# Altium schematic symbol library Schlib1.SchLib: 57 symbols (part 1 of 2)
Pins are listed as number, name and electrical type; pins without a type are passive.

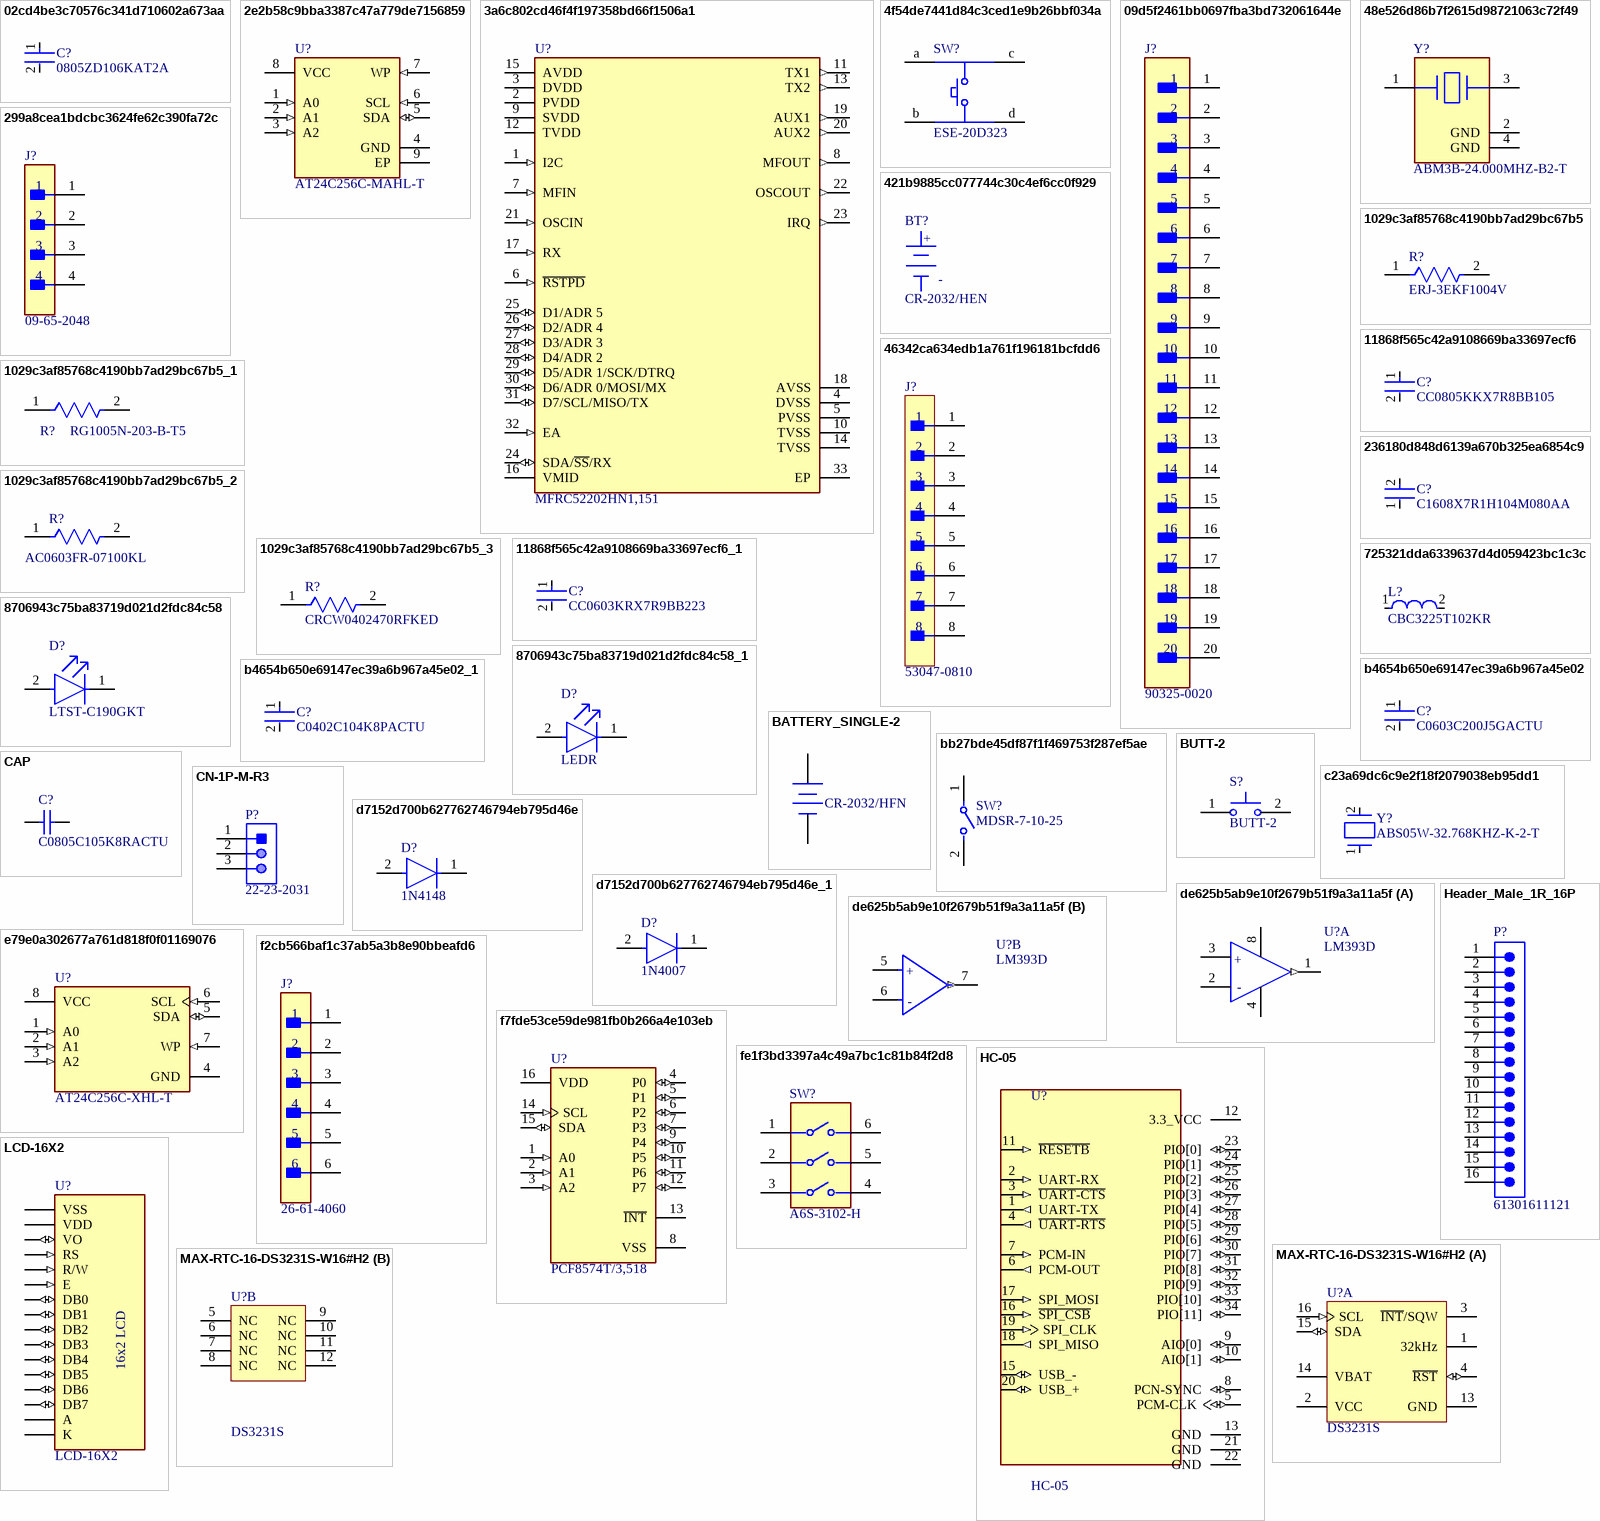
[diagram p0: symbols 02cd4be3c70576c341d710602a673aa to MAX-RTC-16-DS3231S-W16#H2]

## 02cd4be3c70576c341d710602a673aa
designator C?, comment 0805ZD106KAT2A
General Purpose Ceramic Capacitor, 0805, 10uF, 10%, X5R, 15%, 10V; Packaging: Tape and Reel; Mount: Surface Mount; Length: 2.01mm; Series: -; Dielectric Material: Ceramic; Voltage Rating: 10V; Tolerance: 10%; Voltage Rating (DC): 10V; Termination: SMD/SMT; Number of Pins: 2; Thickness: 0.055inch; Min Operating Temperature: -55°C; REACH SVHC: No SVHC; Width: 0.049inch; Case/Package: 0805; Capacitance: 10uF; Depth: 1.25mm; Height: 1.4mm; Voltage: 10V; Package Quantity: 3000; Lead Free: Lead Free; Case Code (Metric): 2012; Construction: Flat; RoHS Compliant: Yes; Case Code (Imperial): 0805; Dielectric: X5R; Max Operating Temperature: 85°C; Radiation Hardening: No
footprint FP-0805-L_2_01_0_2-W_1_25-MFG
footprint FP-0805-L_2_01_0_2-W_1_25-IPC_C
footprint FP-0805-L_2_01_0_2-W_1_25-IPC_A
footprint FP-0805-L_2_01_0_2-W_1_25-IPC_B
pins: 1, 2

## 2e2b58c9bba3387c47a779de7156859
designator U?, comment AT24C256C-MAHL-T
IC EEPROM 256K I2C 1MHZ 8UDFN; Manufacturer: Microchip; Standoff Height: 0mm; Nominal Supply Current: 1-2mA; Frequency: 1000kHz; Memory Size: 256Kbits; Max Supply Voltage: 5.5V; Interface: I2C,2-Wire; Min Supply Voltage: 1.7V; Temperature Range Low: -40°C; Device Class L2: Memory; ComponentLink2Description: Datasheet; Device Class L1: Integrated Circuits (ICs); Temperature Range High: +85°C; Temperature: -40°C to +85°C; Digikey Description: IC EEPROM 256K I2C 1MHZ 8UDFN; RoHS: TRUE; Category: IC; Device Class L3: EEPROM; Height: 0.6mm; Manufacturer Part Number: AT24C256C-MAHL-T; Octopart: https://octopart.com/at24c256c-mahl-t-microchip-77757994; Automotive: No; Mouser Description: EEPROM Serial-2Wire 256K-bit 32K x 8 1.8V/2.5V/3.3V/5V Automotive 8-Pin UDFN EP T/R; ComponentLink2URL: https://ww1.microchip.com/downloads/en/DeviceDoc/AT24C256C-I2C-Compatible-Serial-EEPROM-256-Kbit-20006042A.pdf; Memory Type: EEPROM; Lead Free: Yes; Package: C04-21355-Q4B
footprint FP-C04-21355-Q4B-MFG
footprint FP-C04-21355-Q4B-IPC_C
footprint FP-C04-21355-Q4B-IPC_B
footprint FP-C04-21355-Q4B-IPC_A
pins: 1 A0 (in), 2 A1 (in), 3 A2 (in), 4 GND (power), 5 SDA (io), 6 SCL (in), 7 WP (in), 8 VCC (power), 9 EP (power)

## 3a6c802cd46f4f197358bd66f1506a1
designator U?, comment MFRC52202HN1,151
IC RFID READER 13.56MHZ 32HVQFN; Manufacturer: NXP; Nominal Supply Current: 3-60mA; Interface: I2C,SPI,UART,RS-232; Max Supply Voltage: 3.6V; Max Junction Temp: +100°C; Standoff Height: 0mm; Data Rate: 10Mbits/s; Min Supply Voltage: 1.6V; Max Power Dissipation: 200mW; Digikey Description: IC RFID READER 13.56MHZ 32HVQFN; Manufacturer Part Number: MFRC52202HN1,151; ComponentLink2URL: https://www.nxp.com/docs/en/data-sheet/MFRC522.pdf; Temperature Range High: +100°C; ComponentLink2Description: Datasheet; Category: IC; Device Class L1: Integrated Circuits (ICs); Device Class L3: Transceivers; Max Frequency: 13.56MHz; Automotive: No; Height: 1mm; Ambient Temperature Range High: +85°C; Temperature: to +100°C; Lead Free: Yes; Mouser Description: RFID Transponders CONTACTLESS READER IC; Device Class L2: RF Semiconductors and Devices; Octopart: https://octopart.com/mfrc52202hn1%2C151-nxp+semiconductors-19647932; Footprint Url: https://www.nxp.com/docs/en/package-information/SOT617-1.pdf; RoHS: TRUE; Package: SOT617-1; Ambient Temperature Range Low: -25°C
footprint FP-SOT617-1-MFG
footprint FP-SOT617-1-IPC_C
footprint FP-SOT617-1-IPC_B
footprint FP-SOT617-1-IPC_A
pins: 1 I2C (in), 2 PVDD (power), 3 DVDD (power), 4 DVSS (power), 5 PVSS (power), 6 ~{RSTPD} (in), 7 MFIN (in), 8 MFOUT (out), 9 SVDD (power), 10 TVSS (power), 11 TX1 (out), 12 TVDD (power), 13 TX2 (out), 14 TVSS (power), 15 AVDD (power), 16 VMID (power), 17 RX (in), 18 AVSS (power), 19 AUX1 (out), 20 AUX2 (out), 21 OSCIN (in), 22 OSCOUT (out), 23 IRQ (out), 24 SDA/~{SS}/RX (io), 25 D1/ADR 5 (io), 26 D2/ADR 4 (io), 27 D3/ADR 3 (io), 28 D4/ADR 2 (io), 29 D5/ADR 1/SCK/DTRQ (io), 30 D6/ADR 0/MOSI/MX (io), 31 D7/SCL/MISO/TX (io), 32 EA (in), 33 EP (power)

## 4f54de7441d84c3ced1e9b26bbf034a
designator SW?, comment ESE-20D323
ESE-20D323 Push Switch Momentary SPST, Leaded, 8.9m 14VDC, 2.0N, ST Lead, Bulk; NexarPartId: 40007707; Operating Force: 2N; Current Rating: 100mA; Switch Function: Off-Mom; Number of Positions: 2; Voltage Rating (DC): 14V; Height: 12.8mm; REACH SVHC: No SVHC; Length: 7.9mm; Termination: PC Pin; Mount: Through Hole; Width: 7.8mm; Max Operating Temperature: 80°C; Throw Configuration: SPST; Orientation: Vertical; Contact Current Rating: 100mA; RoHS: Compliant; Radiation Hardening: No; Min Operating Temperature: -30°C; Packaging: Bulk; Lead Free: Lead Free
footprint FP-ESE-20D323-MFG (Push Switch Momentary SPST, Leaded, 8.9m 14VDC, 2.0N, ST Lead, Bulk)
pins: a, b, c, d

## 09d5f2461bb0697fba3bd732061644e
designator J?, comment 90325-0020
90325-0020 Picoflex PF-50 Header, Vertical, Low Profile, with PCB Pegs, 20 Circuits; Manufacturer Lifecycle Status: ACTIVE; NexarPartId: 250569; Voltage Rating (AC): 250V; Number of Circuits: 20; Current Rating: 1.2A; Gender: Male; Pitch: 1.27mm; Glow Wire Compliant: Non-compliant; Contact Resistance: 15mΩ; Wire/Cable Gauge: 26AWG; Width: 24.13mm; Number of Pins: 20; Termination: Through Hole; Material: Polyester; Length: 9.32mm; Housing Material: Polyester; Min Operating Temperature: -40°C; Height: 6.4mm; Voltage Rating: 250V; Contact Material: Brass; REACH SVHC: Unknown; Lead Pitch: 1.27mm; Number of Poles: 20; Schedule B: 8536694040; Mount: Through Hole; Number of Positions: 20; Housing Color: Black; Contact Plating: Tin; Country of Origin: MY; Working Voltage: 250V; Max Current Rating: 1.2A; Lifecycle Status: Production; Lead Free: Lead Free; Number of Rows: 1; Flammability Rating: UL94 V-0; Voltage Rating (DC): 250V; Number of Contacts: 20; RoHS: Compliant; Max Operating Temperature: 105°C; Color: Black; Depth: 5.98mm; Orientation: Vertical
footprint FP-90325-0020-MFG (Picoflex PF-50 Header, Vertical, Low Profile, with PCB Pegs, 20 Circuits)
pins: 1, 2, 3, 4, 5, 6, 7, 8, 9, 10, 11, 12, 13, 14, 15, 16, 17, 18, 19, 20

## 48e526d86b7f2615d98721063c72f49
designator Y?, comment ABM3B-24.000MHZ-B2-T
Crystal 24MHz ±20ppm 18pF SMD-4 5mm x 3.2mm; ESR (Equivalent Series Resistance): 50R; Frequency Stability: 50ppm; Number of Pins: 4; Lead Free: Lead Free; Packaging: Tape and Reel; Tolerance: 20ppm; Series: ABM3B; Height: 0.043inch; Load Capacitance: 18pF; Length: 5mm; Depth: 3.2mm; Mount: Surface Mount; Resistor Type: Ceramic; Case/Package: CSMD; Termination: SMD/SMT; Width: 0.126inch; Frequency: 24MHz; Max Operating Temperature: 70°C; Frequency Tolerance: 20ppm; REACH SVHC: No SVHC; Package Quantity: 1000; Min Operating Temperature: -20°C; Series Resistance: 50R; Operating Frequency: 24 MHz
footprint FP-ABM3B-MFG
pins: 1, 2 GND (power), 3, 4 GND (power)

## 299a8cea1bdcbc3624fe62c390fa72c
designator J?, comment 09-65-2048
CONN HEADER VERT 4POS 3.96MM; Glow Wire Compliant: Non-compliant; Current Rating: 7A; Max Current Rating: 3A; Number of Contacts: 4; Insulation Resistance: 1GR; Voltage Rating (DC): 250V; Contact Resistance: 10mR; Gender: Male; Length: 12.88mm; Packaging: Bulk; Flammability Rating: UL94 V-2; RoHS Compliant: Yes; Housing Material: Nylon; Pitch: 3.96mm; Contact Gender: Male; Orientation: Straight; Housing Color: Natural; Min Operating Temperature: -40°C; Series: 5273; Lead Free: Lead Free; Package Quantity: 6000; Max Voltage Rating (AC): 250V; Radiation Hardening: No; Termination: Through Hole; Depth: 2.29mm; Contact Material: Brass; Number of Positions: 4; Height: 2.03mm; Contact Plating: Tin; Number of Rows: 1; Mount: Through Hole; Voltage Rating: 250V; Max Operating Temperature: 105°C
footprint FP-09-65-2048-MFG
pins: 1, 2, 3, 4

## 421b9885cc077744c30c4ef6cc0f929
designator BT?, comment CR-2032/HEN
CR-2032/HEN Coin Cell Battery CR Coin 225mAH 3V; NexarPartId: 20056885; Chemistry/Technology: Lithium; Outside Diameter: 20mm; RoHS: Non-Compliant; Weight: 2.9g; REACH SVHC: Yes; Diameter: 20mm; Min Operating Temperature: -30°C; Max Operating Temperature: 60°C; Height: 3.2mm
footprint FP-CR-2032-BN-MFG (Coin Cell Battery CR Coin 225mAH 3V)
text: +; -

## 1029c3af85768c4190bb7ad29bc67b5
designator R?, comment ERJ-3EKF1004V
RES SMD 1M OHM 1% 1/10W 0603; Resistance: 1MR; Voltage Rating: 75V; Temperature Coefficient: 100ppm/°C; Power Rating: 100mW; REACH SVHC: No SVHC; Radiation Hardening: No; Features: Automotive AEC-Q200; Case Code (Metric): 1608; Resistance Tolerance: 1%; Case/Package: 0603; Termination: SMD/SMT; Max Operating Temperature: 155°C; Tolerance: 1%; Size Code: 0603; Case Code (Imperial): 0603; Min Operating Temperature: -55°C; Number of Pins: 2; Mount: Surface Mount; Package Quantity: 1; Military Standard: Not; Voltage Rating (DC): 75V; Depth: 0.8mm; Packaging: Tape and Reel; Width: 0.8mm; Number of Terminations: 2; Length: 1.6mm; Height: 0.022inch; RoHS Compliant: Yes; Resistor Type: Thick Film; Contact Plating: Tin; Lead Free: Lead Free; Series: ERJ; Construction: Rectangular; Max Power Dissipation: 100mW
footprint FP-ERJ3EK-IPC_C
footprint FP-ERJ3EK-IPC_A
footprint FP-ERJ3EK-MFG
footprint FP-ERJ3EK-IPC_B
pins: 1, 2

## 1029c3af85768c4190bb7ad29bc67b5_1
designator R?, comment RG1005N-203-B-T5
Automotive Metal Thin Film Chip Resistor, 0402, 20kΩ, 0.1%, 10ppm/°C, 0.0625W, 75V; Power Rating: 30mW; Resistance: 20kR; Max Power Dissipation: 63mW; Voltage Rating: 25V; Resistor Type: Thin Film; RoHS Compliant: Yes; Number of Terminations: 2; Tolerance: 0.1%; Features: Automotive AEC-Q200; Case Code (Imperial): 0402; Package Quantity: 5000; Case/Package: 0402; Lead Free: Lead Free; Voltage Rating (DC): 25V; Series: RG; Termination: SMD/SMT; Length: 1mm; Max Operating Temperature: 155°C; Height: 0.35mm; Width: 0.5mm; Case Code (Metric): 1005; Packaging: Tape and Reel; Min Operating Temperature: -55°C; Temperature Coefficient: 10ppm/°C
footprint FP-RG1005-MFG
footprint FP-RG1005-IPC_B
footprint FP-RG1005-IPC_A
footprint FP-RG1005-IPC_C
pins: 1, 2

## 1029c3af85768c4190bb7ad29bc67b5_2
designator R?, comment AC0603FR-07100KL
RES 100KΩ 1.00% 0.1W 0603; Temperature Coefficient: 100ppm/°C; Voltage Rating: 50V; Max Power Dissipation: 100mW; Tolerance: 1%; Working Voltage: 75V; Resistance: 100kR; Min Operating Temperature: -55°C; Case Code (Imperial): 0603; Width: 0.031inch; Max Operating Temperature: 155°C; Military Standard: Not; Technology: THICK FILM; Ratings: AEC-Q200; Features: Moisture Resistant; Construction: Rectangular; Resistor Type: Thick Film; RoHS Compliant: Yes; Case Code (Metric): 1608; Termination: SMD/SMT; Series: AC; Lead Free: Lead Free; Length: 1.6mm; Depth: 0.8mm; Height: 0.022inch; Power Rating: 100mW; Package Quantity: 1; Packaging: Tape and Reel; Case/Package: 0603; Number of Terminations: 2; Moisture Sensitivity Level: 1
footprint FP-AC0603-MFG
footprint FP-AC0603-IPC_A
footprint FP-AC0603-IPC_C
footprint FP-AC0603-IPC_B
pins: 1, 2

## 1029c3af85768c4190bb7ad29bc67b5_3
designator R?, comment CRCW0402470RFKED
RES Thick Film, 470Ω, 1%, 0.063W, 100ppm/°C, 0402; Power Rating: 63mW; Voltage Rating (DC): 50V; Resistance: 470R; Case Code (Imperial): 0402; Tolerance: 1%; Lead Free: Lead Free; Max Operating Temperature: 155°C; Military Standard: Not; Height: 0.35mm; Termination: SMD/SMT; Mount: Surface Mount; Features: Automotive AEC-Q200; Composition: Thick Film; Temperature Coefficient: 100ppm/°C; Case Code (Metric): 1005; Package Quantity: 10; Radiation Hardening: No; Max Power Dissipation: 63mW; Weight: 2.3E-05oz; Width: 0.5mm; Length: 1mm; Depth: 0.5mm; Min Operating Temperature: -55°C; Voltage Rating: 50V; Case/Package: 0402; Packaging: Tape and Reel; Contact Plating: Tin; Number of Terminations: 2
footprint FP-CRCW0402-e3-MFG
footprint FP-CRCW0402-e3-IPC_B
footprint FP-CRCW0402-e3-IPC_C
footprint FP-CRCW0402-e3-IPC_A
pins: 1, 2

## 11868f565c42a9108669ba33697ecf6
designator C?, comment CC0805KKX7R8BB105
CAP CER 1UF 25V X7R 0805; Manufacturer: Yageo; Material: Ceramic; Tolerance: 0.1; Capacitance: 1 uF; Temperature Characteristic: X7R; RoHS: TRUE; Manufacturer Part Number: CC0805KKX7R8BB105; Value: 1 uF; Package: CC0805-0.85; Ipc Land Pattern Name: CAPC200125X85; Device Class L2: Capacitors; ComponentLink2URL: http://www.yageo.com/documents/recent/UPY-GPHC_Y5V_6.3V-to-50V_8.pdf; Height: 0.95mm; ComponentLink2Description: Datasheet; Voltage Rating: 25 V; Automotive: No; Device Class L1: Passive Components; Lead Free: Yes; Temperature Range Low: -30°C; Digikey Description: CAP CER 1UF 25V X7R 0805; Temperature: -30°C to +85°C; Temperature Range High: +85°C; Category: Cap; Device Class L3: Ceramic Capacitors; Footprint Url: http://www.yageo.com/exep/pages/download/literatures/UPY-C_GEN_24.pdf; Octopart: https://octopart.com/cc0805kkx7r8bb105-yageo-42244645; Mouser Description: Multilayer Ceramic Capacitor, CC Series, 1 - F, - 10%, X7R, 25 V, 0805 [2012 Metric]
footprint FP-CC0805-0_85-MFG
footprint FP-CC0805-0_85-IPC_C
footprint FP-CC0805-0_85-IPC_B
footprint FP-CC0805-0_85-IPC_A
pins: 1, 2

## 11868f565c42a9108669ba33697ecf6_1
designator C?, comment CC0603KRX7R9BB223
CAP CER 0.022UF 50V X7R 0603; Dielectric Material: Ceramic; Insulation Resistance: 100GR; Tolerance: 10%; Capacitance: 22nF; Thickness: 0.035inch; Case/Package: 0603; Packaging: Tape and Reel; Voltage Rating (DC): 50V; Length: 1.6mm; Depth: 0.8mm; Dielectric: X7R; Resistor Type: Ceramic; Min Operating Temperature: -55°C; Number of Pins: 2; Series: CC; Mount: Surface Mount; Max Operating Temperature: 125°C; Case Code (Imperial): 0603; Width: 0.031inch; Halogen Free: Halogen Free; Lead Free: Lead Free; Voltage: 50V; RoHS Compliant: Yes; Package Quantity: 1; Height: 0.8mm; REACH SVHC: No SVHC; Voltage Rating: 50V; Case Code (Metric): 1608; Termination: SMD/SMT; Radiation Hardening: No
footprint FP-CC0603-DA-MFG
footprint FP-CC0603-DA-IPC_C
footprint FP-CC0603-DA-IPC_B
footprint FP-CC0603-DA-IPC_A
pins: 1, 2

## 46342ca634edb1a761f196181bcfdd6
designator J?, comment 53047-0810
Conn Shrouded Header (4 Sides) HDR 8 POS 1.25mm Solder ST Top Entry Thru-Hole PicoBlade Tray; Manufacturer Lifecycle Status: ACTIVE; Gender: Male; Glow Wire Compliant: Non-compliant; Current Rating: 1A; Number of Positions: 8; Contact Resistance: 20mΩ; Insulation Resistance: 100MΩ; Plating: Tin; Voltage Rating (DC): 125V; Number of Circuits: 7; Schedule B: 8536694040, 8536694040; Max Operating Temperature: 85°C; Housing Material: Polyamide; Pitch: 1.25mm; Number of Rows: 1; ComponentLink1URL: http://molex.com; Country of Origin: MX; Case/Package: 0810; Height: 4.4mm; Housing Color: Natural; Flammability Rating: UL94 V-0; Orientation: Vertical; ComponentLink3Description: Manufacturer's Package Drawing; Mount: Through Hole; Min Operating Temperature: -40°C; Number of Pins: 8; Radiation Hardening: No; Contact Plating: Tin; Lead Pitch: 1.25mm; China RoHS: Compliant; ComponentLink1Description: Manufacturer's Website; Lead Free: Lead Free; ComponentLink2Description: Datasheet URL; RoHS: Compliant; Voltage Rating (AC): 125V; ComponentLink3URL: https://www.molex.com/content/dam/molex/molex-dot-com/products/automated/en-us/salesdrawingpdf/530/53047/530470810_sd.pdf?inline; Color: Natural; Number of Contacts: 8; Lifecycle Status: Production; HelpURL: https://www.molex.com/en-us/products/part-detail/530470810#part-details; ComponentLink2URL: https://www.molex.com/en-us/products/part-detail/530470810#part-details; REACH SVHC: Unknown; Contact Material: Tin; Termination: Through Hole; Voltage Rating: 125V
footprint 53047-0810_MFG (Recommended Land Pattern)
pins: 1, 2, 3, 4, 5, 6, 7, 8

## 236180d848d6139a670b325ea6854c9
designator C?, comment C1608X7R1H104M080AA
Multilayer Ceramic Capacitors 100nF ±20% 50V X7R SMD 0603; Length: 1.6mm; Mount: Surface Mount; Package Quantity: 1; Construction: Flat; Case/Package: 0603; Max Operating Temperature: 125°C; Case Code (Metric): 1608; Radiation Hardening: No; Packaging: Tape and Reel; Tolerance: 20%; Case Code (Imperial): 0603; Lead Free: Lead Free; Voltage Rating: 50V; Depth: 0.8mm; Width: 0.031inch; Thickness: 0.037inch; RoHS Compliant: Yes; Height: 0.8mm; Capacitance: 100nF; Dielectric: X7R; REACH SVHC: No SVHC; Min Operating Temperature: -55°C; Weight: 7.1E-05oz; Termination: SMD/SMT; Series: C; Dielectric Material: Ceramic; Voltage Rating (DC): 50V; Number of Pins: 2; Resistor Type: Ceramic
footprint FP-C1608-080-0_1-IPC_C
footprint FP-C1608-080-0_1-IPC_A
footprint FP-C1608-080-0_1-MFG
footprint FP-C1608-080-0_1-IPC_B
pins: 1, 2

## 725321dda6339637d4d059423bc1c3c
designator L?, comment CBC3225T102KR
SMD Inductors 1000uH ±10% 0.1A 16.9Ω 1210; Inductance: 1mH; Self Resonant Frequency: 1.6MHz; Saturation Current: 100mA; Shielding: Unshielded; Core Material: Ferrite; Test Frequency: 100kHz; DC Resistance (DCR): 13R; Min Operating Temperature: -40°C; Tolerance: 10%; Length: 0.126inch; Height: 2.5mm; Depth: 2.7mm; Termination: SMD/SMT; Series: CB; Package Quantity: 1000; RoHS Compliant: Yes; Height - Seated (Max): 0.106inch; Packaging: Tape and Reel; Radiation Hardening: No; Current Rating: 100mA; Halogen Free: Halogen Free; Case/Package: 1210; Max DC Current: 100mA; Case Code (Metric): 3225; Width: 0.098inch; Lead Free: Lead Free; Mount: Surface Mount; Max Operating Temperature: 105°C; Case Code (Imperial): 1210; Resistor Type: Wirewound
footprint FP-CB3225-IPC_B
footprint FP-CB3225-MFG
footprint FP-CB3225-IPC_A
footprint FP-CB3225-IPC_C
pins: 1, 2

## 8706943c75ba83719d021d2fdc84c58
designator D?, comment LTST-C190GKT
LED GREEN CLEAR CHIP SMD; Dominant Wavelength: 569nm; Reverse Voltage: 5V; Lens Color: Colorless; Viewing Angle: 130°; Voltage: 2V; Forward Current: 30mA; Power Dissipation: 100mW; Luminous Intensity: 6mcd; Number of LEDs: 1; Forward Voltage: 2.1V; Wavelength: 565nm; Test Current: 10mA; Min Operating Temperature: -55°C; Lens Style: Clear; Mount: Surface Mount; Width: 0.8mm; Packaging: Tape and Reel; Lens Transparency: Clear; Case Code (Metric): 1608; Depth: 0.8mm; Case Code (Imperial): 0603; Case/Package: 0603; Number of Pins: 2; Max Operating Temperature: 85°C; Lead Free: Lead Free; Number of Elements: 1; Length: 1.6mm; Height: 0.8mm; Package Quantity: 1; Power Rating: 100mW; Radiation Hardening: No; Illumination Color: Green; Color: Green
footprint FP-LTST-C190GKT-MFG
pins: 1 C, 2 A

## 8706943c75ba83719d021d2fdc84c58_1
designator D?, comment LEDR
NexarPartId: 549908; Illumination Color: Red; Lens Transparency: Clear; Luminous Intensity: 54mcd; Current: 2A; Forward Current: 20mA; Number of Elements: 1; Power Rating: 75mW; Lens Color: Colorless; Wavelength: 639nm; Viewing Angle: 130°; Voltage: 2V; Dominant Wavelength: 631nm; Reverse Voltage: 5V; Height: 550µm; Length: 1.6mm; Number of Pins: 2; Packaging: Tape and Reel; Mount: Surface Mount; Case Code (Metric): 1608; Radiation Hardening: No; Case Code (Imperial): 0603; Test Current: 20mA; Number of LEDs: 1; Schedule B: 8541402000, 8541402000; Lead Free: Lead Free; Power Dissipation: 75mW; RoHS: Compliant; Forward Voltage: 2V; Lens Style: Clear; Color: Red; Max Operating Temperature: 85°C; Depth: 800µm; Width: 800µm; Min Operating Temperature: -55°C; Case/Package: 0603
footprint FP-LTST-C191KRKT-MFG (LED Uni-Color Red 639nm 2-Pin Chip LED T/R / LED RED CLEAR 0603 SMD)
pins: 1 C, 2 A

## b4654b650e69147ec39a6b967a45e02
designator C?, comment C0603C200J5GACTU
CAP CER 20PF 50V 5% NP0 0603; Manufacturer: KEMET; Temperature Coefficient: 30ppm/°C; Temperature Characteristic: C0G; Automotive Grade: Grade 1; Tolerance: 0.05; Material: Ceramic; Category: Cap; Manufacturer Part Number: C0603C200J5GACTU; Temperature Range Low: -55°C; RoHS: TRUE; ComponentLink2URL: https://api.kemet.com/component-edge/download/datasheet/C0603C100J5GACAUTO.pdf; Package: C0603C-CF; Height: 0.87mm; Capacitance: 20 pF; Voltage Rating: 50 V; Octopart: https://octopart.com/c0603c200j5gactu-kemet-9138585; Device Class L1: Passive Components; Automotive: Yes; Digikey Description: CAP CER 20PF 50V 5% NP0 0603; Temperature Range High: +125°C; Device Class L3: Ceramic Capacitors; Mouser Description: Multilayer Ceramic Capacitors MLCC - SMD/SMT 50volts 20pF C0G 5%; ComponentLink2Description: Datasheet; Device Class L2: Capacitors; Lead Free: Yes; Temperature: -55°C to +125°C; Value: 20 pF
footprint FP-C0603C-CF-MFG
footprint FP-C0603C-CF-IPC_C
footprint FP-C0603C-CF-IPC_B
footprint FP-C0603C-CF-IPC_A
pins: 1, 2

## b4654b650e69147ec39a6b967a45e02_1
designator C?, comment C0402C104K8PACTU
CAP CER 0.1UF 10V X5R 0402; Manufacturer: Kemet; Material: Ceramic; Capacitance: 0.10 μF; Temperature Coefficient: 15%; Tolerance: 0.1; Value: 0.10 μF; Package: C0402-BB; Temperature: -55°C to +125°C; ComponentLink2Description: Datasheet; Temperature Characteristic: X5R; Device Class L1: Passive Components; Height: 0.55mm; Lead Free: Yes; ComponentLink2URL: https://content.kemet.com/datasheets/KEM_C1002_X7R_SMD.pdf; Device Class L2: Capacitors; Temperature Range Low: -55°C; Temperature Range High: +125°C; RoHS: TRUE; Octopart: https://octopart.com/c0402c104k8pactu-kemet-140039; Automotive: No; Mouser Description: Capacitor 100 nF 10 VDC 0402; Category: Cap; Voltage Rating: 10 V; Digikey Description: CAP CER 0.1UF 10V X5R 0402; Ipc Land Pattern Name: CAPC10050X50; Device Class L3: Ceramic Capacitors; Manufacturer Part Number: C0402C104K8PACTU
footprint FP-C0402-BB-MFG
footprint FP-C0402-BB-IPC_C
footprint FP-C0402-BB-IPC_B
footprint FP-C0402-BB-IPC_A
pins: 1, 2

## BATTERY_SINGLE-2
designator ?, comment CR-2032/HFN
Coin Cell Battery, 225 mAh, 0.2 mA, 3 V, -30 to 60 degC, Bulk; Manufacturer: Panasonic; SVHC: 1,2-dimethoxyethane,ethyleneglycoldimethylether(EGDME)(15-Jun-2015); Battery Size Code: 2032; Battery Voltage: 3V; Battery IEC Code: CR2032; Battery NEDA Code: 5004LC; External Height: 3.2mm; Battery Terminals: PCBPins; Battery Capacity: 220mAh; External Diameter: 20mm; Battery Technology: LithiumManganeseDioxide; Product Range: -; Datasheet Version: Rev. 0, 05/2010; Manufacturer URL: http://www.panasonic.com/; External Depth: -; Weight: 2.9g; Datasheet URL: https://datasheet.ciiva.com/3/aaa4000de87-3072.pdf; External Width: -
footprint PANA-CR-2032HFN (TH, 2-Leads, Dia 21.5mm)
pins: 1 +, 2 -

## bb27bde45df87f1f469753f287ef5ae
designator SW?, comment MDSR-7-10-25
SWITCH REED SPST-NO 350MA 140V; Voltage Rating (AC): 200V; Contact Resistance: 100mR; Release Time: 0.2ms; Resistance: 0.1R; Operate Time: 0.6ms; Power Rating: 10W; Capacitance: 0.3pF; Throw Configuration: SPST; Max Current Rating: 500mA; Min Operating Temperature: -40°C; Mount: Axial; Packaging: Bulk; Max Voltage Rating (DC): 200V; Max Operating Temperature: 125°C; Lead Free: Lead Free; Radiation Hardening: No; Package Quantity: 100; Length: 1.59inch; RoHS Compliant: Yes; Termination: Axial; Series: MDSR-7
footprint FP-MDSR-7-MFG
pins: 1, 2

## BUTT-2
designator S?
Tactile Switches MINI PUSH BUTTON SWITCH 2-PIN QTY. 4; MF: Gravitech; Design Item ID: BUTT-2; Purchase-URL: https://pricing.snapeda.com/search/part/BUTT-2/?ref=eda; Availability: In Stock; Component Type: Standard; Case/Package: None; Price: None; MP: BUTT-2; Pins: 2; Source: BUTT-2.SchLib; Value: *; SnapEDA_Link: https://www.snapeda.com/parts/BUTT-2/Gravitech/view-part/?ref=snap; Check_prices: https://www.snapeda.com/parts/BUTT-2/Gravitech/view-part/?ref=eda
footprint SW_BUTT-2
pins: 1, 2

## c23a69dc6c9e2f18f2079038eb95dd1
designator Y?, comment ABS05W-32.768KHZ-K-2-T
Crystal 32.768kHz ±20ppm (Tol) 4pF 85kΩ 2-Pin SMD T/R; ESR (Equivalent Series Resistance): 85kR; Frequency Tolerance: 20ppm; Mount: Surface Mount; Load Capacitance: 4pF; Case/Package: SMD/SMT; Packaging: Cut Tape; Frequency: 32.768kHz; Series: ABS05W; Min Operating Temperature: -40°C; Max Operating Temperature: 125°C
footprint FP-ABS05W-MFG
pins: 1, 2

## CAP
designator C?, comment C0805C105K8RACTU
Manufacturer: Kemet; Part Number: C0805C105K8RACTU
footprint CAPC2013X100X50ML20T25 (Chip Capacitor, 2-Leads, Body 2.00x1.25mm, IPC Low Density)
footprint CAPC2013X100X50NL20T25 (Chip Capacitor, 2-Leads, Body 2.00x1.25mm, IPC Medium Density)
footprint CAPC2013X100X50LL20T25 (Chip Capacitor, 2-Leads, Body 2.00x1.25mm, IPC High Density)
pins: 1, 2
1 alternate drawing of the same symbol

## CN-1P-M-R3
designator P?, comment 22-23-2031
Male Header, Pitch 2.54 mm, 1 x 3 Position, Height 8.18 mm, Tail Length 3.56 mm, RoHS, Bulk; Current Rating: 4A; Brand: Molex; Pitch: 2.54mm; Voltage Rating: 250V; Mounting Angle: Vertical; Type: Locking; Factory Pack Quantity: 16000; Tradename: KK; Housing Material: Nylon; Contact Material: Brass; Manufacturer URL: http://www.molex.com/; Termination Style: ThroughHole; Mounting Style: ThroughHole; Number of Positions: 3Position; Contact Gender: Pin(Male); Packaging: Bulk; Series: 6373; Datasheet Version: Sep-01; Contact Plating: Tin; Product: Headers; Datasheet URL: https://datasheet.ciiva.com/19472/232274-19472863.pdf; RoHS: Details; Product Category: Headers&WireHousings; Manufacturer: Molex; Number of Rows: 1Row
footprint MOLX-22-23-2031_V (CONN, 3-Leads, Body 7.62x6.35mm, Pitch 2.54mm)
pins: 1, 2, 3

## d7152d700b627762746794eb795d46e
designator D?, comment 1N4148
DIODE GEN PURP 100V 200MA DO35; Forward Voltage: 1V; Max Power Dissipation: 500mW; Max Reverse Current: 5uA; Forward Current: 300mA; Current: 4A; Reverse Recovery Time: 4ns; Element Configuration: Single; Outside Diameter: 1.85mm; Capacitance: 4pF; Polarity: Standard; Max Forward Surge Current (Ifsm): 1A; Reverse Voltage: 100V; Output Current: 200mA; Average Rectified Current: 200mA; Diameter: 1.91mm; Max Repetitive Reverse Voltage (Vrrm): 100V; Current Rating: 200mA; Case/Package: DO-35; Lead Free: Lead Free; Number of Pins: 2; Recovery Time: 4ns; Packaging: Bulk; Contact Plating: Tin; Voltage: 100V; Mount: Through Hole; Max Surge Current: 4A; Package Quantity: 2000; Width: 1.91mm; Max Reverse Voltage (DC): 100V; Length: 4.56mm; Radiation Hardening: No; Power Dissipation: 500mW; Voltage Rating (DC): 100V; Peak Non-Repetitive Surge Current: 4A; REACH SVHC: No SVHC; Height: 4.56mm; Max Operating Temperature: 175°C; Series: -; Weight: 0.01lb; Min Operating Temperature: -65°C
footprint FP-017AG-MFG
pins: 1 C, 2 A

## d7152d700b627762746794eb795d46e_1
designator D?, comment 1N4007
Rectifier diode 1000 V 1 A DO-41, ,; Manufacturer: Diotec; Max Surge Forward Current: 27A; Forward Current: 1A; Max Junction Temp: +175°C; Reverse Voltage: 1000V; Value: 15pF; Peak Reverse Current: 5uA; Category: Diode; Temperature Range Low: -50°C; Automotive: No; Temperature: -50°C to +175°C; Lead Free: Yes; ComponentLink2Description: Datasheet; Max Repetitive Reverse Voltage: 1000V; ComponentLink2URL: https://datasheet.octopart.com/1N4007-Diotec-datasheet-62346875.pdf; Manufacturer Part Number: 1N4007; Device Class L3: Rectifier Diodes; Height: 2.8mm; Octopart: https://octopart.com/1n4007-diotec-4040411; Package: 1N4007; Temperature Range High: +175°C; Device Class L1: Discrete Semiconductors; Device Class L2: Diodes; RoHS: TRUE; Capacitance: 15pF; Ipc Land Pattern Name: DIOAD888W100L520D280
footprint FP-1N4007-MFG
pins: 1 C, 2 A

## de625b5ab9e10f2679b51f9a3a11a5f
designator U?, comment LM393D
IC VOLT COMPARATOR DUAL LP 8SOIC; Manufacturer: STMicroelectronics; Response Time: 1.3us; Min Supply Voltage: 2V; Input Offset Voltage: 1mV; Input Bias Current: 0.02uA; Max Dual Supply Voltage: 18V; Output Current Per Channel: 18mA; Max Junction Temp: +150°C; Standoff Height: 0.1mm; Number Of Channels: 2; Nominal Supply Current: 0.45-0.6mA; Voltage Gain: 200V/mV; Max Supply Voltage: 36V; Min Dual Supply Voltage: 1V; Ambient Temperature Range Low: 0°C; ComponentLink2Description: Datasheet; Lead Free: Yes; Device Class L3: Comparators; Device Class L2: Linear ICs; Manufacturer Part Number: LM393D; Digikey Description: IC VOLT COMPARATOR DUAL LP 8SOIC; Category: IC; Octopart: https://octopart.com/lm393d-stmicroelectronics-25832; Package: SO8; RoHS: TRUE; Footprint Url: https://www.st.com/resource/en/datasheet/stm8l001j3.pdf; Temperature Range Low: 0°C; Temperature Range High: +70°C; Mouser Description: Analog Comparators Lo-Pwr Dual Voltage; ComponentLink2URL: https://www.st.com/resource/en/datasheet/lm393.pdf; Automotive: No; Temperature: 0°C to +70°C; Height: 1.75mm; Device Class L1: Integrated Circuits (ICs); Ambient Temperature Range High: +70°C
footprint FP-SO8-MFG
footprint FP-SO8-IPC_C
footprint FP-SO8-IPC_B
footprint FP-SO8-IPC_A
part A pins: 1 Out1 (out), 2 In1- (hiz), 3 In1+ (hiz), 4 Vcc- (power), 8 Vcc+ (power)
part B pins: 5 In2+ (hiz), 6 In2- (hiz), 7 Out2 (out)
part A text: +; -
part B text: +; -

## e79e0a302677a761d818f0f01169076
designator U?, comment AT24C256C-XHL-T
IC EEPROM 256KBIT I2C 8TSSOP; Density: 256Kb; Nominal Supply Current: 3mA; Access Time-Max: 550ns; Organization: 32KX8; Write Protection: YES; Max Frequency: 1MHz; Max Supply Voltage: 5.5V; Min Supply Voltage: 1.7V; Reach SVHC Compliant: Yes; Radiation Hardening: No; Lead Free: Lead Free; Memory Type: EEPROM; RoHS Compliant: Yes; Package Quantity: 5000; Interface: I2C; Min Operating Temperature: -40°C; Access Time: 550ns; Number of Pins: 8; Packaging: Tape and Reel; Series: -; Frequency: 1MHz; Memory Size: 256Kb; Mount: Surface Mount; Case/Package: TSSOP; Supply Current: 3mA; Max Operating Temperature: 85°C
footprint FP-C04-086-IPC_B
footprint FP-C04-086-MFG
footprint FP-C04-086-IPC_A
footprint FP-C04-086-IPC_C
pins: 1 A0 (in), 2 A1 (in), 3 A2 (in), 4 GND (power), 5 SDA (io), 6 SCL (in), 7 WP (in), 8 VCC (power)

## f2cb566baf1c37ab5a3b8e90bbeafd6
designator J?, comment 26-61-4060
26-61-4060 3.96mm (.156") Pitch KK® Solid Header, Vertical, Friction Lock, 6 Circuits, Gold (Au) Plating; Manufacturer Lifecycle Status: ACTIVE; NexarPartId: 277947; Glow Wire Compliant: Non-compliant; Gender: Male; Number of Positions: 6; Insulation Resistance: 50GΩ; Voltage Rating: 250V; Current Rating: 7A; Contact Resistance: 6mΩ; Packaging: Bulk; Contact Plating: Gold; Lifecycle Status: Production; Number of Rows: 1; Mount: Through Hole; Height: 14.73mm; Min Operating Temperature: 0°C; Pitch: 3.96mm; Termination: Solder; Orientation: Vertical; Length: 23.62mm; Lead Pitch: 3.96mm; Country of Origin: US; Number of Contacts: 6; Depth: 10.01mm; Contact Material: Brass; Housing Material: Polyester; Housing Color: Natural; Flammability Rating: UL94 V-0; Voltage Rating (DC): 250V; Max Operating Temperature: 75°C; Radiation Hardening: No; Schedule B: 8536694040; Lead Free: Lead Free; Max Current Rating: 7A; REACH SVHC: Unknown; Number of Circuits: 6; Max Voltage Rating (AC): 250V; RoHS: Compliant
footprint FP-26-61-4060-MFG (3.96mm (.156") Pitch KK® Solid Header, Vertical, Friction Lock, 6 Circuits, Gold (Au) Plating)
pins: 1, 2, 3, 4, 5, 6

## f7fde53ce59de981fb0b266a4e103eb
designator U?, comment PCF8574T/3,518
IC I/O EXPANDER I2C 8B 16SOIC; Manufacturer: NXP Semiconductors; Frequency: 100kHz; Max Supply Voltage: 6V; Standoff Height: 0.1mm; Nominal Supply Current: 40uA; Max Junction Temp: +125°C; Min Supply Voltage: 2.5V; Number Of I/Os: 8; Manufacturer Part Number: PCF8574T/3,518; Footprint Url: https://www.nxp.com/docs/en/package-information/SOT162-1.pdf; ComponentLink2URL: https://www.nxp.com/docs/en/data-sheet/PCF8574_PCF8574A.pdf; Automotive: No; Digikey Description: IC I/O EXPANDER I2C 8B 16SOIC; Mouser Description: PCF8574 Series 2.5 - 6V Remote 8-bit I/O Expander for I2C-bus - SOIC-16; Ipc Land Pattern Name: SOIC127P1032X265-16; Interface: I2C; Octopart: https://octopart.com/pcf8574t%2F3%2C518-nxp+semiconductors-10470852; Ambient Temperature Range Low: -40°C; Lead Free: Yes; Device Class L2: Interface ICs; Temperature Range High: +85°C; Device Class L1: Integrated Circuits (ICs); Package: SOT162-1; ComponentLink2Description: Datasheet; Device Class L3: I/O Expanders; Temperature: -40°C to +85°C; Ambient Temperature Range High: +85°C; Height: 2.65mm; Category: IC; RoHS: TRUE; Temperature Range Low: -40°C
footprint FP-SOT162-1-MFG
footprint FP-SOT162-1-IPC_C
footprint FP-SOT162-1-IPC_B
footprint FP-SOT162-1-IPC_A
pins: 1 A0 (in), 2 A1 (in), 3 A2 (in), 4 P0 (io), 5 P1 (io), 6 P2 (io), 7 P3 (io), 8 VSS (power), 9 P4 (io), 10 P5 (io), 11 P6 (io), 12 P7 (io), 13 ~{INT} (oc), 14 SCL (in), 15 SDA (io), 16 VDD (power)

## fe1f3bd3397a4c49a7bc1c81b84f2d8
designator SW?, comment A6S-3102-H
SWITCH SLIDE DIP SPST 25MA 24V; Contact Resistance: 200mR; Actuator Type: Slide (Standard); Pitch: 0.1inch; Mechanical Life: 1000Cycles; Number of Circuits: 3; Actuator Length: 0mm; Washable: Yes; Radiation Hardening: No; Package Quantity: 55; Throw Configuration: SPST; Case/Package: DIP; Contact Material: Gold; Packaging: Rail/Tube; Max Current Rating: 25mA; Max Voltage Rating (DC): 24V; Series: A6S-H; Max Operating Temperature: 70°C; Orientation: Straight; Contact Plating: Gold; Current Rating: 25mA; Mount: Surface Mount; Voltage Rating (DC): 24V; Termination: Gull Wing; Terminal Pitch: 2.54mm; Number of Positions: 3; Min Operating Temperature: -20°C; RoHS Compliant: Yes; Contact Current Rating: 25mA; Length: 0.337inch; Depth: 9.8mm; Electrical Life: 1000Cycles
footprint FP-A6S-3102-H-MFG
pins: 1, 2, 3, 4, 5, 6

## HC-05
designator U?
Bluetooth to Serial Port Module; MF: ITead Studio; Pin Count: 33; Source: HC-05.SchLib; Check_prices: https://www.snapeda.com/parts/HC-05/ITEAD/view-part/?ref=eda; SnapEDA_Link: https://www.snapeda.com/parts/HC-05/ITEAD/view-part/?ref=snap; MP: HC-05; Component Type: Standard; Package: Module ITead Studio; Design Item ID: HC-05; Value: *
footprint XCVR_HC-05
pins: 1 UART-TX (out), 2 UART-RX (in), 3 ~{UART-CTS} (in), 4 ~{UART-RTS} (out), 5 PCM-CLK (io), 6 PCM-OUT (out), 7 PCM-IN (in), 8 PCN-SYNC (io), 9 AIO[0] (io), 10 AIO[1] (io), 11 ~{RESETB} (in), 12 3.3_VCC (power), 13 GND (power), 15 USB_- (io), 16 ~{SPI_CSB} (in), 17 SPI_MOSI (in), 18 SPI_MISO (out), 19 SPI_CLK (in), 20 USB_+ (io), 21 GND (power), 22 GND (power), 23 PIO[0] (io), 24 PIO[1] (io), 25 PIO[2] (io), 26 PIO[3] (io), 27 PIO[4] (io), 28 PIO[5] (io), 29 PIO[6] (io), 30 PIO[7] (io), 31 PIO[8] (io), 32 PIO[9] (io), 33 PIO[10] (io), 34 PIO[11] (io)

## Header_Male_1R_16P
designator P?, comment 61301611121
NexarPartId: 32855548; Voltage Rating: 250V; Connector Type: Male Pin; Current Rating: 3A; Contact Resistance: 20mΩ; Number of Contacts: 16; Gender: Male; Pitch: 2.54mm; Min Operating Temperature: -40°C; Termination: Solder; Height: 8.89mm; Contact Plating: Gold; Packaging: Bulk; Contact Material: Copper; Mount: Through Hole; Number of Rows: 1; Contact Mating Length: 5.9944mm; Operating Supply Voltage: 250V; RoHS: Compliant; Max Operating Temperature: 105°C; Lead Pitch: 2.54mm; Color: Black; Number of Pins: 16; Number of Positions: 16; REACH SVHC: Unknown; Orientation: Vertical
footprint 61301611121 (THT Vertical Pin Header WR-PHD, Pitch 2.54 mm, Single Row, 16 pins)
pins: 1, 2, 3, 4, 5, 6, 7, 8, 9, 10, 11, 12, 13, 14, 15, 16

## LCD-16X2
designator U?
Display Development Tools 16x2 Black on Green Char LCD w Backlight; MF: Gravitech; MP: LCD-16X2; Design Item ID: LCD-16X2; Check_prices: https://www.snapeda.com/parts/LCD-16X2/Gravitech/view-part/?ref=eda; Case/Package: None; Pins: 16; Source: LCD-16X2.SchLib; Value: *; SnapEDA_Link: https://www.snapeda.com/parts/LCD-16X2/Gravitech/view-part/?ref=snap; Component Type: Standard
footprint MODULE_LCD-16X2
pins: 1 VSS (power), 2 VDD (power), 3 VO (io), 4 RS (in), 5 R/W (in), 6 E (in), 7 DB0 (io), 8 DB1 (io), 9 DB2 (io), 10 DB3 (io), 11 DB4 (io), 12 DB5 (io), 13 DB6 (io), 14 DB7 (io), 15 A (power), 16 K (power)
text: 16x2 LCD

## MAX-RTC-16-DS3231S-W16#H2
designator U?, comment DS3231S
Extremely Accurate I2C-Integrated Real-Time Clock/TCXO/Crystal, 16-Pin SO, 0 to 70 degC; Code_IPC: SOIC127P1030-16; ComponentLink2Description: Datasheet; ComponentLink1URL: http://www.maxim-ic.com; PackageDescription: 16-Pin Small-Outline IC, Wide (0.3in), 1.27 mm Pitch, SOIC (W); PackageReference: W16-H2; ComponentLink2URL: http://datasheets.maxim-ic.com/en/ds/DS3231.pdf; DatasheetVersion: Rev 8, Jul-2010; PackageVersion: revD, 2010; ComponentLink1Description: Manufacturer URL; ComponentLink3Description: Package Specification; Code_JEDEC: MS-013-AA; ComponentLink3URL: http://pdfserv.maxim-ic.com/package_dwgs/21-0042.PDF
footprint W16-H2_L (SOIC, 16-Leads, Body 10.3x7.5mm, Pitch 1.27mm, IPC High Density)
footprint W16-H2_N (SOIC, 16-Leads, Body 10.3x7.5mm, Pitch 1.27mm, IPC Medium Density)
footprint W16-H2_M (SOIC, 16-Leads, Body 10.3x7.5mm, Pitch 1.27mm, IPC Low Density)
part A pins: 1 32kHz (oc), 2 VCC (power), 3 ~{INT}/SQW (oc), 4 ~{RST} (io), 13 GND (power), 14 VBAT (power), 15 SDA (io), 16 SCL (in)
part B pins: 5 NC, 6 NC, 7 NC, 8 NC, 9 NC, 10 NC, 11 NC, 12 NC

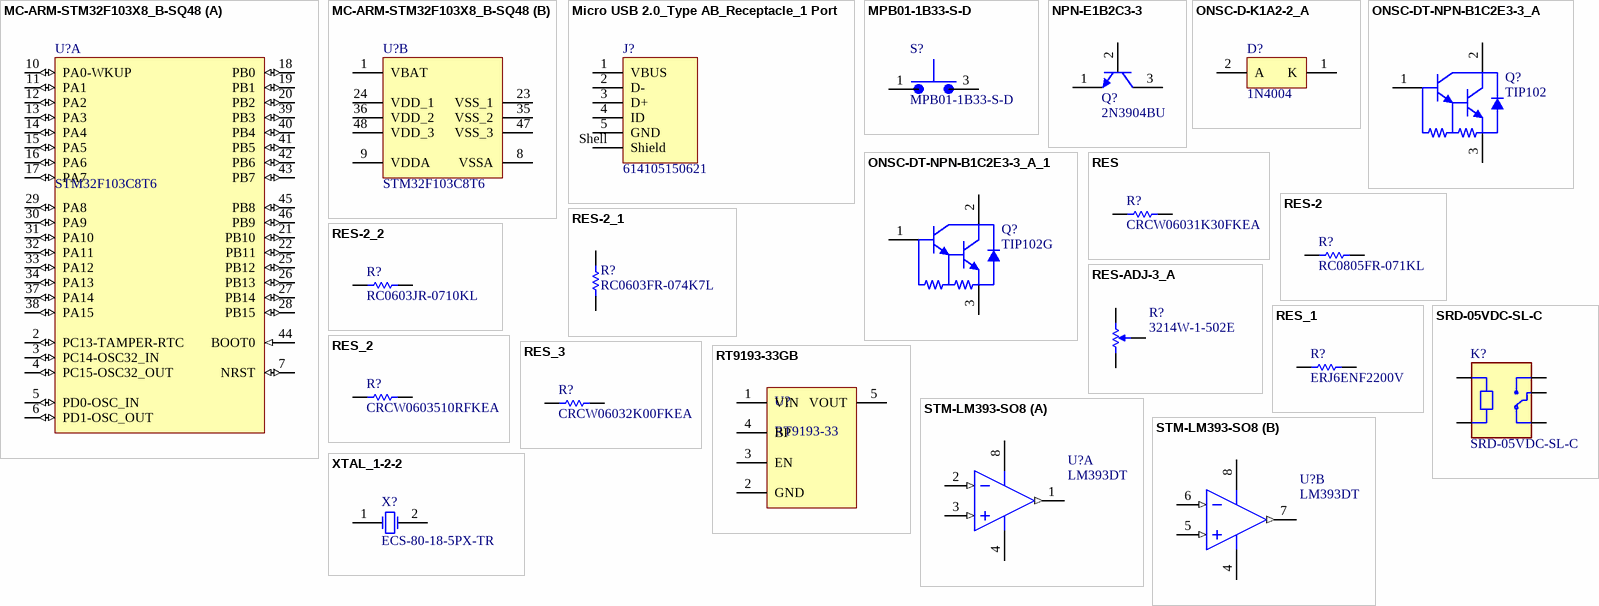
[diagram p1: symbols MC-ARM-STM32F103X8_B-SQ48 to XTAL_1-2-2]

## MC-ARM-STM32F103X8_B-SQ48
designator U?, comment STM32F103C8T6
ARM Cortex-M3 32-bit MCU, 64 KB Flash, 20 KB Internal RAM, 37 I/Os, 48-pin LQFP, -40 to 85 degC, Tray; Supply Voltage(Vcc) min (V): 2; Internal RAM Size (kB): 20; FLASH Size (Prog) (kB): 64; A/D Converter: 2x12-bit (10 Channel); I/Os (High Current): 37; Operating Frequency(F) (Processor speed) (MHz): 72; Core: ARM Cortex-M3; ComponentLink3Description: Package Specification; Mounting Technology: Surface Mount; PartNumber: STM32F103C8T6; PackageReference: LQFP48; Packing: Tray; ComponentLink3URL: http://www.st.com/st-web-ui/static/active/en/resource/technical/document/datasheet/DM00058181.pdf; DatasheetVersion: Rev. 16; ComponentLink1URL: http://www.st.com/web/en/home.html; PackageVersion: Rev. 6, 06/2013; ComponentLink2URL: http://www.st.com/st-web-ui/static/active/en/resource/technical/document/datasheet/CD00161566.pdf; ComponentLink1Description: Manufacturer URL; ComponentLink2Description: Datasheet; PackageDescription: 48-Pin Low Profile Quad Flat Package, 7 x 7 mm Body, 0.5 mm Pitch
footprint STM-LQFP48_L (QFP, 48-Leads, Body 7x7mm, Pitch 0.5mm, IPC High Density)
footprint STM-LQFP48_N (QFP, 48-Leads, Body 7x7mm, Pitch 0.5mm, IPC Medium Density)
footprint STM-LQFP48_M (QFP, 48-Leads, Body 7x7mm, Pitch 0.5mm, IPC Low Density)
part A pins: 2 PC13-TAMPER-RTC (io) "PC13-TAMPER-RTC/PC13/TAMPER-RTC", 3 PC14-OSC32_IN (io) "PC14-OSC32_IN/PC14/OSC32_IN", 4 PC15-OSC32_OUT (io) "PC15-OSC32_OUT/PC15/OSC32_OUT", 5 PD0-OSC_IN (io) "PD0/OSC_IN", 6 PD1-OSC_OUT (io) "PD1/OSC_OUT", 7 NRST (io), 10 PA0-WKUP (io) "PA0-WKUP/PA0/WKUP/USART2_CTS/ADC12_IN0/TIM2_CH1_ETR", 11 PA1 (io) "PA1/USART2_RTS/ADC12_IN1/TIM2_CH2", 12 PA2 (io) "PA2/USART2_TX/ADC12_IN2/TIM2_CH3", 13 PA3 (io) "PA3/USART2_RX/ADC12_IN3/TIM2_CH4", 14 PA4 (io) "PA4/SPI1_NSS/USART2_CK/ADC12_IN4", 15 PA5 (io) "PA5/SPI1_SCK/ADC12_IN5", 16 PA6 (io) "PA6/SPI1_MISO/ADC12_IN6/TIM3_CH1/TIM1_BKIN", 17 PA7 (io) "PA7/SPI1_MOSI/ADC12_IN7/TIM3_CH2/TIM1_CH1N", 18 PB0 (io) "PB0/ADC12_IN8/TIM3_CH3/TIM1_CH2N", 19 PB1 (io) "PB1/ADC12_IN9/TIM3_CH4/TIM1_CH3N", 20 PB2 (io) "PB2/BOOT1", 21 PB10 (io) "PB10/I2C2_SCL/USART3_TX/TIM2_CH3", 22 PB11 (io) "PB11/I2C2_SDA/USART3_RX/TIM2_CH4", 25 PB12 (io) "PB12/SPI2_NSS/I2C2_SMBAl/USART3_CK/TIM1_BKIN", 26 PB13 (io) "PB13/SPI2_SCK/USART3_CTS/TIM1_CH1N", 27 PB14 (io) "PB14/SPI2_MISO/USART3_RTS/TIM1_CH2N", 28 PB15 (io) "PB15/SPI2_MOSI/TIM1_CH3N", 29 PA8 (io) "PA8/USART1_CK/TIM1_CH1/MCO", 30 PA9 (io) "PA9/USART1_TX/TIM1_CH2", 31 PA10 (io) "PA10/USART1_RX/TIM1_CH3", 32 PA11 (io) "PA11/USART1_CTS/CANRX/USBDM/TIM1_CH4", 33 PA12 (io) "PA12/USART1_RTS/CANTX/USBDP/TIM1_ETR", 34 PA13 (io) "PA13/JTMS/SWDIO", 37 PA14 (io) "PA14/JTCK/SWCLK", 38 PA15 (io) "PA15/JTDI/TIM2_CH1_ETR/SPI1_NSS", 39 PB3 (io) "PB3/JTDO/TIM2_CH2/TRACESWO/SPI1_SCK", 40 PB4 (io) "PB4/NJTRST/TIM3_CH1/SPI1_MISO", 41 PB5 (io) "PB5/I2C1_SMBAI/TIM3_CH2/SPI1_MOSI", 42 PB6 (io) "PB6/I2C1_SCL/TIM4_CH1/USART1_TX", 43 PB7 (io) "PB7/I2C1_SDA/TIM4_CH2/USART1_RX", 44 BOOT0 (in), 45 PB8 (io) "PB8/TIM4_CH3/I2C1_SCL/CANRX", 46 PB9 (io) "PB9/TIM4_CH4/I2C1_SDA/CANTX"
part B pins: 1 VBAT (power), 8 VSSA (power), 9 VDDA (power), 23 VSS_1 (power), 24 VDD_1 (power), 35 VSS_2 (power), 36 VDD_2 (power), 47 VSS_3 (power), 48 VDD_3 (power)

## Micro USB 2.0_Type AB_Receptacle_1 Port
designator J?, comment 614105150621
NexarPartId: 52645110; Contact Resistance: 30mΩ; Gender: Receptacle; Number of Contacts: 5; Current Rating: 1.8A; Voltage Rating: 30V; USB Standard: USB 2.0; Insulation Resistance: 1GΩ; Connector Type: USB; Mount: Through Hole, Vertical; Contact Material: Gold; Height: 5.81mm; Number of Pins: 5; Operating Supply Voltage: 30V; Features: Shielded; Packaging: Tape and Reel; Contact Plating: Gold; Min Operating Temperature: -40°C; RoHS: Compliant; REACH SVHC: Unknown; Max Operating Temperature: 85°C; Orientation: Vertical
footprint 614105150621 (Conn Micro USB 2.0 Type AB SKT 5 POS 1.3mm Solder ST Thru-Hole 5 Terminal 1 Port T/R)
pins: 1 VBUS, 2 D-, 3 D+, 4 ID, 5 GND, Shell Shield

## MPB01-1B33-S-D
designator S?
SPST, Through Hole, 3.3 mm Push, Off-(ON), Straight Terminal, 5.08 mm Pitch, Push Button Switch; MF: Same Sky; Case/Package: None; Pins: 2; Component Type: Standard; MP: MPB01-1B33-S-D; SnapEDA_Link: https://www.snapeda.com/parts/MPB01-1B33-S-D/Same+Sky/view-part/?ref=snap; Value: *; Design Item ID: MPB01-1B33-S-D; Check_prices: https://www.snapeda.com/parts/MPB01-1B33-S-D/Same+Sky/view-part/?ref=eda; Source: MPB01-1B33-S-D.SchLib
footprint SW_MPB01-1B33-S-D
pins: 1, 3

## NPN-E1B2C3-3
designator Q?, comment 2N3904BU
NPN General-Purpose Amplifier, 40 V VCEO, 0.2 A, -55 to 150 degC, 2-Pin TO-92, RoHS, Bulk; Manufacturer: FairchildSemiconductor; Maximum Collector Base Voltage: 60V; Minimum DC Current Gain: 40@0.1mA@1V; Maximum Collector Emitter Voltage: 40V; Maximum DC Collector Current: 0.2A; Rad Hard: No; Maximum Operating Frequency: 300(Min)MHz; Maximum Collector Emitter Saturation Voltage: 0.2@1mA@10mA; Maximum Power Dissipation: 625mW; Package Description: 3-Pin Transistor Outline Package, Body Dia 4.79 mm, Pitch 1.27 mm; Package Reference: TO-92; Pin Count: 3; Operating Temperature: -55to150degC; Category: GPBJT; Manufacturer URL: https://www.fairchildsemi.com/; Datasheet URL: https://datasheet.ciiva.com/4722/2n3904-82270-4722369.pdf; Package: 3TO-92; Packaging: Bulk; Type: NPN; Datasheet Version: Rev. 1.1.0, 10/2014; Mounting: ThroughHole
footprint FAIR-TO-92 (TO, 3-Leads, Body Dia 4.79mm, Pitch 1.27mm)
pins: 1 E, 2 B, 3 C

## ONSC-D-K1A2-2_A
designator D?, comment 1N4004
Standard Recovery Rectifier, 2-Pin Axial_Lead, Pb-Free, Bulk Bag; Manufacturer: On Semiconductor; IFSM Max (A): 30; IO(rec) Max (A): 1; VRRM Max (V): 400; Type: Standard Recovery; Packing: Bulk Bag; PackageVersion: Rev. U, 02/2005; ComponentLink1URL: http://www.onsemi.com/; ComponentLink3URL: http://www.onsemi.cn/pub_link/Collateral/59-10.PDF; DatasheetVersion: Rev. 13; PartNumber: 1N4004; ComponentLink1Description: Manufacturer URL; Mounting Technology: Through Hole; PackageReference: AXIAL_LEAD-2-59-10; ComponentLink3Description: Package Specification; ComponentLink2URL: http://www.onsemi.com/pub_link/Collateral/1N4001-D.PDF; ComponentLink2Description: Datasheet; PackageDescription: 2-Pin, Axial Lead, Diameter 2.35 mm; RoHS: TRUE
footprint ONSC-AXIAL_LEAD-2-59-10_P (AXIAL, 2-Leads, Diameter 2.35mm)
pins: 1 K, 2 A

## ONSC-DT-NPN-B1C2E3-3_A
designator Q?, comment TIP102
Plastic Medium-Power, Complementary Silicon Transistor, 3-Pin TO-220, Tube; Manufacturer: On Semiconductor; hFE Max (k): 20; IC Continuous (A): 8; Polarity: NPN; RoHS: FALSE; ComponentLink1Description: Manufacturer URL; ComponentLink3URL: http://www.onsemi.com/pub_link/Collateral/221A-09.PDF; ComponentLink2URL: http://www.onsemi.cn/pub_link/Collateral/TIP100-D.PDF; Packing: Tube; PackageReference: TO-220-3-221A-09; ComponentLink1URL: http://www.onsemi.com/; Mounting Technology: Through Hole; DatasheetVersion: Rev. 13; PackageVersion: Rev. AG, 09/2011; ComponentLink3Description: Package Specification; PartNumber: TIP102; ComponentLink2Description: Datasheet; PackageDescription: 3-Pin Flange Mount, Vertical Straight Lead, Body 9.97 x 4.445 mm, Pitch 2.54 mm
footprint ONSC-TO-220-3-221A-09 (FM, 3-Leads, Body 10.3x4.85mm, Pitch 2.54mm)
pins: 1 B, 2 C, 3 E

## ONSC-DT-NPN-B1C2E3-3_A_1
designator Q?, comment TIP102G
Plastic Medium-Power, Complementary Silicon Transistor, 3-Pin TO-220, Pb-Free, Tube; Manufacturer: On Semiconductor; hFE Max (k): 20; IC Continuous (A): 8; Polarity: NPN; ComponentLink3Description: Package Specification; ComponentLink2URL: http://www.onsemi.cn/pub_link/Collateral/TIP100-D.PDF; Mounting Technology: Through Hole; PackageDescription: 3-Pin Flange Mount, Vertical Straight Lead, Body 9.97 x 4.445 mm, Pitch 2.54 mm; ComponentLink1URL: http://www.onsemi.com/; PackageReference: TO-220-3-221A-09; RoHS: TRUE; ComponentLink1Description: Manufacturer URL; PartNumber: TIP102G; Packing: Tube; ComponentLink2Description: Datasheet; PackageVersion: Rev. AG, 09/2011; DatasheetVersion: Rev. 13; ComponentLink3URL: http://www.onsemi.com/pub_link/Collateral/221A-09.PDF
footprint ONSC-TO-220-3-221A-09 (FM, 3-Leads, Body 10.3x4.85mm, Pitch 2.54mm)
pins: 1 B, 2 C, 3 E

## RES
designator R?, comment CRCW06031K30FKEA
Manufacturer: Vishay Dale; Part Number: CRCW06031K30FKEA
footprint RESC1609X50X30NL10T20 (Chip Resistor, 2-Leads, Body 1.55x0.85mm, IPC Medium Density)
footprint RESC1609X50X30ML10T20 (Chip Resistor, 2-Leads, Body 1.55x0.85mm, IPC Low Density)
footprint RESC1609X50X30LL10T20 (Chip Resistor, 2-Leads, Body 1.55x0.85mm, IPC High Density)
pins: 1, 2
1 alternate drawing of the same symbol

## RES-2
designator R?, comment RC0805FR-071KL
Chip Resistor, 1 KOhm, +/- 1%, 125 mW, -55 to 155 degC, 0805 (2012 Metric), RoHS, Tape and Reel; Manufacturer: Yageo; Temperature Coefficient: 100ppm/degreesC; Voltage Rating (DC): 150V; Max Power Dissipation: 125mW; Resistance: 1KOhm; Number of Pins: 2; Number of Terminations: 2; Datasheet URL: http://www.yageo.com/NewPortal/yageodocoutput?fileName=/pdf/R-Chip/PYu-RC_Group_51_RoHS_L_5.pdf; Length: 0.079inch; Package Description: 2-Pin Surface Mounted Device, Body 2 x 1.25 mm; Depth: 1.25mm; Height: 0.024inch; Military Standard: Not; Case/Package: 0805; Package Reference: 0805; RoHSCompliant: true; Lead Free: LeadFree; Packaging: TapeandReel; Package Quantity: 1; Datasheet Version: Rev. 5, 10/2016; Tolerance: 1%; Min Operating Temperature: -55degC; Voltage Rating: 150V; Composition: ThickFilm; Case Code (Imperial): 0805; Power Rating: 125mW; Width: 0.049inch; Case Code (Metric): 2012; Manufacturer URL: http://www.yageo.com/; Max Operating Temperature: 155degC; REACH SVHC: Unknown; Termination: SMD/SMT
footprint RESC2013X60X35ML10T20 (Chip Resistor, 2-Leads, Body 2.1x1.35mm, IPC Low Density)
footprint RESC2013X60X35NL10T20 (Chip Resistor, 2-Leads, Body 2.1x1.35mm, IPC Medium Density)
footprint RESC2013X60X35LL10T20 (Chip Resistor, 2-Leads, Body 2.00x1.25mm, IPC High Density)
pins: 1, 2

## RES-2_1
designator R?, comment RC0603FR-074K7L
Chip Resistor, 4.7 KOhm, +/- 1%, 0.1 W, -55 to 155 degC, 0603 (1608 Metric), RoHS, Tape and Reel; Manufacturer: Yageo; Power Rating: 100mW; Temperature Coefficient: 100PPM/C; Resistance: 4.7kOhms; Voltage Rating: 50V; Package Reference: 0603; Series: RC; Datasheet Version: Rev. 7, 05/2017; Packaging: Reel; Termination Style: SMD/SMT; Datasheet URL: http://www.yageo.com/documents/recent/PYu-RC_Group_51_RoHS_L_7.pdf; Manufacturer URL: http://www.yageo.com/; Package Description: 2-Pin Surface Mount Device, Body 1.6 x 0.8 mm; Case Code - mm: 1608; Case Code - in: 0603; Mounting Technology: SurfaceMount; Operating Temperature Range: -55Cto+155C; Tolerance: 1%; Product: ThickFilmResistorsGeneralPurpose
footprint RESC1608X55X25LL10T15 (Chip Resistor, 2-Leads, Body 1.60x0.80mm, IPC High Density)
footprint RESC1608X55X25ML10T15 (Chip Resistor, 2-Leads, Body 1.70x0.90mm, IPC Low Density)
footprint RESC1608X55X25NL10T15 (Chip Resistor, 2-Leads, Body 1.70x0.90mm, IPC Medium Density)
pins: 1, 2

## RES-2_2
designator R?, comment RC0603JR-0710KL
Resistor, 10 KOhm, +/- 5%, 100 mW, -55 to 155 degC, 0603 (1608 Metric), RoHS, Tape and Reel; Manufacturer: Yageo; Resistance: 10kOhms; Voltage Rating: 50V; Temperature Coefficient: 100PPM/C; Power Rating: 100mW; Package Reference: 603; Series: RC; Case Code - mm: 1608; Packaging: Reel; Datasheet URL: http://www.farnell.com/datasheets/443971.pdf; Datasheet Version: Rev. 4, 04/2009; Operating Temperature Range: -55Cto+155C; Product: ThickFilmResistorsGeneralPurpose; Package Description: 2-Pin Surface Mount Device, Body 1.6 x 0.8 mm; Manufacturer URL: http://www.yageo.com/; Case Code - in: 0603; Tolerance: 5%; Termination Style: SMD/SMT
footprint RESC1608X55X25ML10T15 (Chip Resistor, 2-Leads, Body 1.60x0.80mm, IPC Low Density)
footprint RESC1608X55X25NL10T15 (Chip Resistor, 2-Leads, Body 1.70x0.90mm, IPC Medium Density)
footprint RESC1608X55X25LL10T15 (Chip Resistor, 2-Leads, Body 1.60x0.80mm, IPC High Density)
pins: 1, 2

## RES-ADJ-3_A
designator R?, comment 3214W-1-502E
3214 - 5-Turn Trimpot(R) Trimming Potentiometer, 5 KOhm, +/- 10%, 0.25 W, -65 to 150 degC, RoHS, Tape and Reel; Manufacturer: Bourns; Temperature Coefficient: ±100ppm/°C; Power Rating: 250mW; No. of Turns: 5; Track Resistance: 5kohm; SVHC: NoSVHC(16-Jun-2014); Potentiometer Mounting: SMD; Manufacturer URL: http://www.bourns.com/; Resistance Tolerance: ±10%; Datasheet URL: http://www.bourns.com/docs/Product-Datasheets/3214.pdf; ROHS COMPLIANT: Yes; Mounting Technology: SurfaceMount; Datasheet Version: 05/2016; Package Reference: 3214W; Package Description: 3-Pin Surface Mount Device, Body 3.5 x 4.8 mm, Pitch 1.25 mm
footprint BOUR-3214W_V (SMD, 3-Leads, Body 3.5x4.8mm, Pitch 1.25mm)
pins: 1, 2, 3